# Altium integrated library Maxim Real-Time Clocks (RTCs).IntLib: 548 symbols (part 12 of 13)
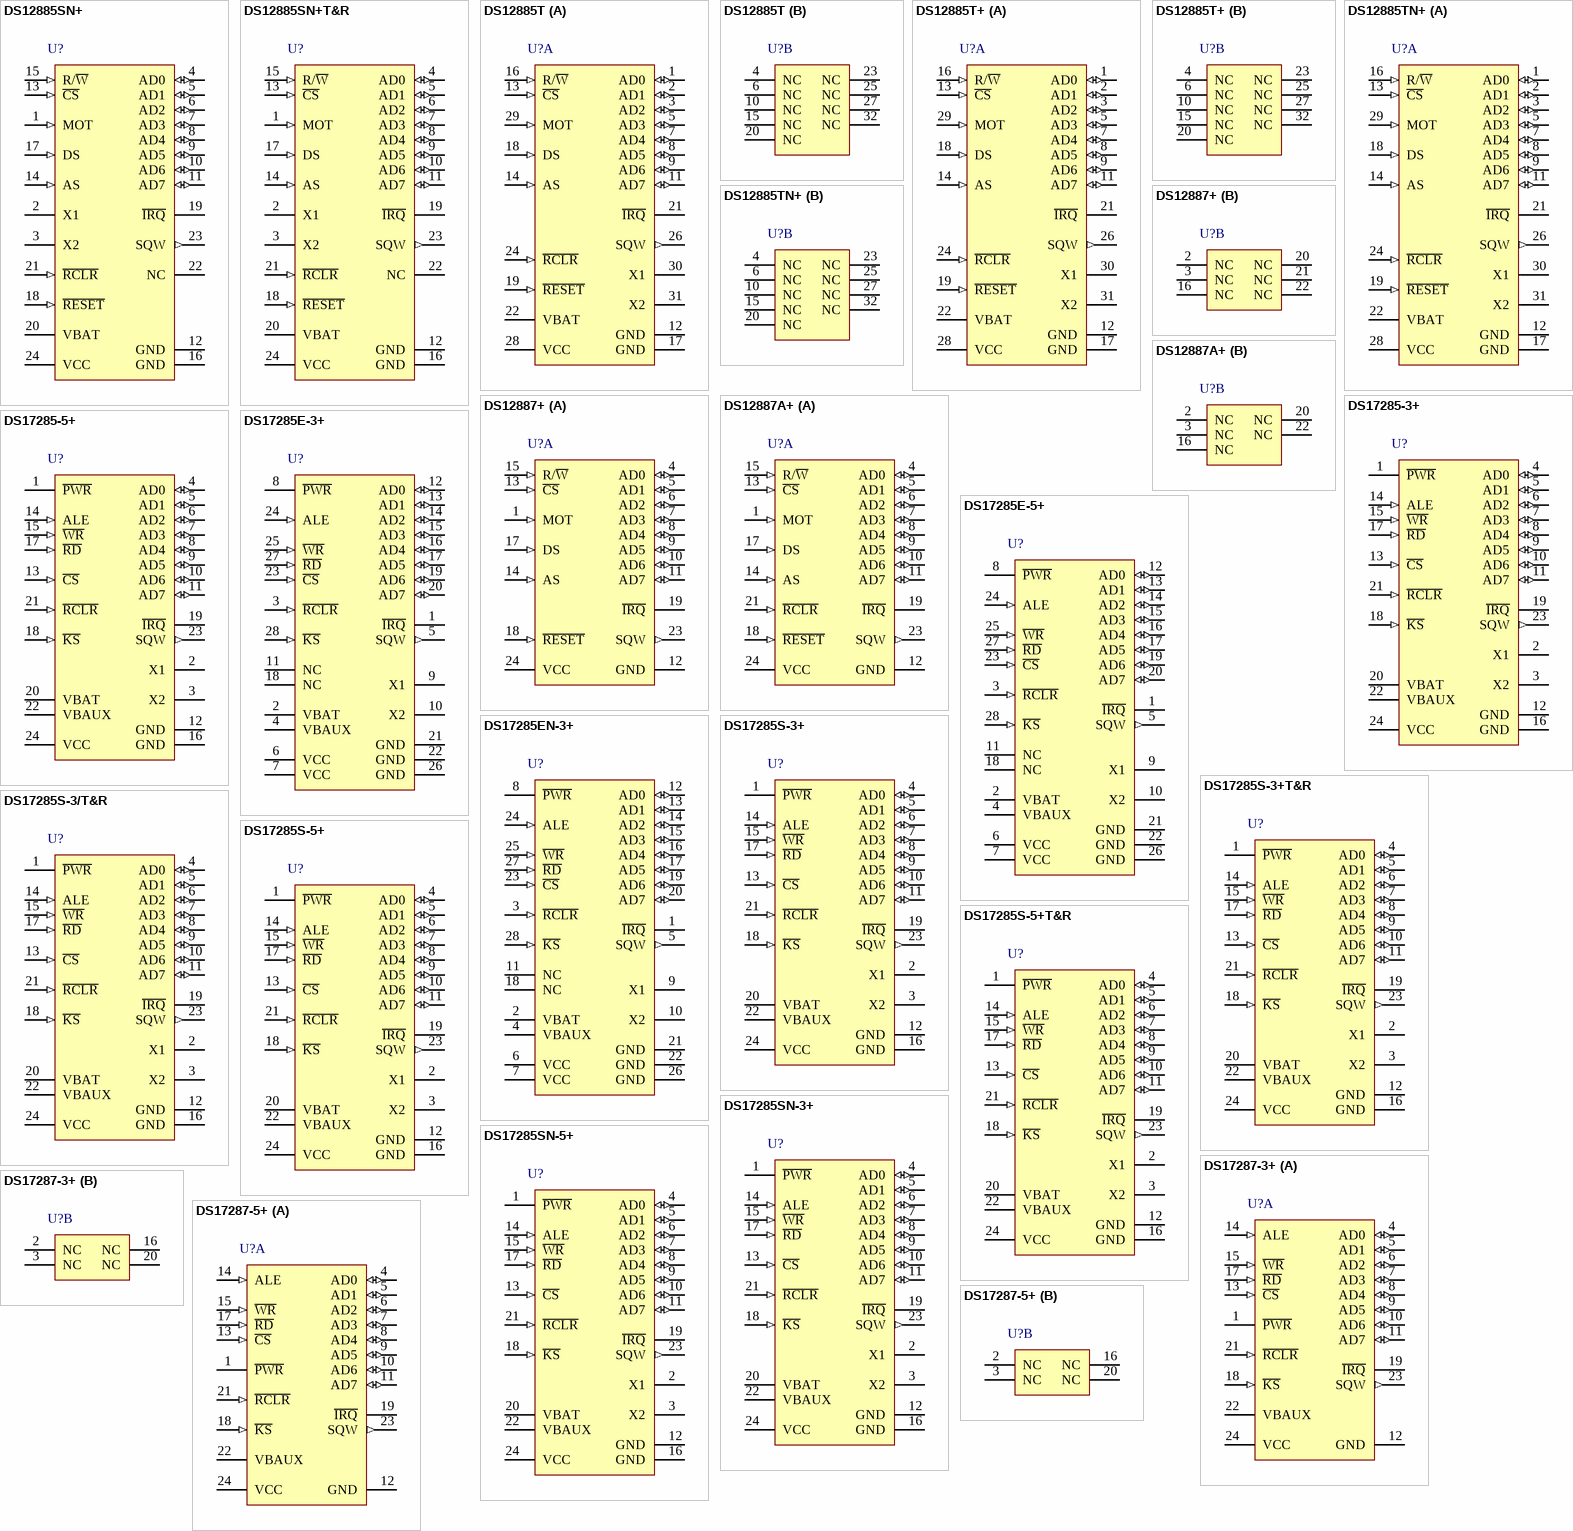
[diagram p32: symbols DS12885SN+ to DS17287-5+]

## DS12885T
designator U?
Real-Time Clock, 114 Byte Battery-Backed RAM, 32-Pin TQFP, 0 to 70 degC; DatasheetVersion: rev4, Apr-2010; PackageVersion: revB, Nov-2009; PackageReference: C32-3; PackageDescription: 32-Pin Thin Quad Flatpack, 10 x 10 x 1.0 mm Body, 0.8 mm Pitch, TQFP; ComponentLink1Description: Manufacturer URL; ComponentLink1URL: http://www.maxim-ic.com; ComponentLink2Description: Datasheet; ComponentLink2URL: http://datasheets.maxim-ic.com/en/ds/DS12885-DS12C887A.pdf; ComponentLink3Description: Package Specification; ComponentLink3URL: http://pdfserv.maxim-ic.com/package_dwgs/21-0292.PDF
footprint C32-3_N (Thin QFP, 32-Leads, Body 7x7mm, Pitch 0.8mm, IPC Medium Density)
footprint C32-3_L (Thin QFP, 32-Leads, Body 7x7mm, Pitch 0.8mm, IPC High Density)
footprint C32-3_M (Thin QFP, 32-Leads, Body 7x7mm, Pitch 0.8mm, IPC Low Density)
part A pins: 1 AD0 (io), 2 AD1 (io), 3 AD2 (io), 5 AD3 (io), 7 AD4 (io), 8 AD5 (io), 9 AD6 (io), 11 AD7 (io), 12 GND (power), 13 ~{CS} (in), 14 AS (in), 16 R/~{W} (in), 17 GND (power), 18 DS (in), 19 ~{RESET} (in), 21 ~{IRQ} (hiz), 22 VBAT (power), 24 ~{RCLR} (in), 26 SQW (out), 28 VCC (power), 29 MOT (in), 30 X1, 31 X2
part B pins: 4 NC, 6 NC, 10 NC, 15 NC, 20 NC, 23 NC, 25 NC, 27 NC, 32 NC

## DS12885T+
designator U?
Real-Time Clock, 114 Byte Battery-Backed RAM, 32-Pin TQFP, 0 to 70 degC, Pb-Free; DatasheetVersion: rev4, Apr-2010; PackageVersion: revB, Nov-2009; PackageReference: C32+3; PackageDescription: 32-Pin Thin Quad Flatpack, 10 x 10 x 1.0 mm Body, 0.8 mm Pitch, TQFP, Pb-Free; ComponentLink1Description: Manufacturer URL; ComponentLink1URL: http://www.maxim-ic.com; ComponentLink2Description: Datasheet; ComponentLink2URL: http://datasheets.maxim-ic.com/en/ds/DS12885-DS12C887A.pdf; ComponentLink3Description: Package Specification; ComponentLink3URL: http://pdfserv.maxim-ic.com/package_dwgs/21-0292.PDF
footprint C32+3_N (Thin QFP, 32-Leads, Body 7x7mm, Pitch 0.8mm, IPC Medium Density)
footprint C32+3_L (Thin QFP, 32-Leads, Body 7x7mm, Pitch 0.8mm, IPC High Density)
footprint C32+3_M (Thin QFP, 32-Leads, Body 7x7mm, Pitch 0.8mm, IPC Low Density)
part A pins: 1 AD0 (io), 2 AD1 (io), 3 AD2 (io), 5 AD3 (io), 7 AD4 (io), 8 AD5 (io), 9 AD6 (io), 11 AD7 (io), 12 GND (power), 13 ~{CS} (in), 14 AS (in), 16 R/~{W} (in), 17 GND (power), 18 DS (in), 19 ~{RESET} (in), 21 ~{IRQ} (hiz), 22 VBAT (power), 24 ~{RCLR} (in), 26 SQW (out), 28 VCC (power), 29 MOT (in), 30 X1, 31 X2
part B pins: 4 NC, 6 NC, 10 NC, 15 NC, 20 NC, 23 NC, 25 NC, 27 NC, 32 NC

## DS12885TN+
designator U?
Real-Time Clock, 114 Byte Battery-Backed RAM, 32-Pin TQFP, -40 to 85 degC, Pb-Free; DatasheetVersion: rev4, Apr-2010; PackageVersion: revB, Nov-2009; PackageReference: C32+3; PackageDescription: 32-Pin Thin Quad Flatpack, 10 x 10 x 1.0 mm Body, 0.8 mm Pitch, TQFP, Pb-Free; ComponentLink1Description: Manufacturer URL; ComponentLink1URL: http://www.maxim-ic.com; ComponentLink2Description: Datasheet; ComponentLink2URL: http://datasheets.maxim-ic.com/en/ds/DS12885-DS12C887A.pdf; ComponentLink3Description: Package Specification; ComponentLink3URL: http://pdfserv.maxim-ic.com/package_dwgs/21-0292.PDF
footprint C32+3_N (Thin QFP, 32-Leads, Body 7x7mm, Pitch 0.8mm, IPC Medium Density)
footprint C32+3_L (Thin QFP, 32-Leads, Body 7x7mm, Pitch 0.8mm, IPC High Density)
footprint C32+3_M (Thin QFP, 32-Leads, Body 7x7mm, Pitch 0.8mm, IPC Low Density)
part A pins: 1 AD0 (io), 2 AD1 (io), 3 AD2 (io), 5 AD3 (io), 7 AD4 (io), 8 AD5 (io), 9 AD6 (io), 11 AD7 (io), 12 GND (power), 13 ~{CS} (in), 14 AS (in), 16 R/~{W} (in), 17 GND (power), 18 DS (in), 19 ~{RESET} (in), 21 ~{IRQ} (hiz), 22 VBAT (power), 24 ~{RCLR} (in), 26 SQW (out), 28 VCC (power), 29 MOT (in), 30 X1, 31 X2
part B pins: 4 NC, 6 NC, 10 NC, 15 NC, 20 NC, 23 NC, 25 NC, 27 NC, 32 NC

## DS12887+
designator U?
Real-Time Clock, Integrated XTAL, 114 Byte Battery-Backed RAM, 24-Pin EDIP, 0 to 70 degC, Pb-Free; DatasheetVersion: rev4, Apr-2010; PackageVersion: revA, Feb-2009; PackageReference: MDP24+1; PackageDescription: 24-Pin Encapsulated Dual-In-Line Module, 2.54 mm Pitch, EDIP, 720-mil, Pb-Free; ComponentLink1Description: Manufacturer URL; ComponentLink1URL: http://www.maxim-ic.com; ComponentLink2Description: Datasheet; ComponentLink2URL: http://datasheets.maxim-ic.com/en/ds/DS12885-DS12C887A.pdf; ComponentLink3Description: Package Specification; ComponentLink3URL: http://pdfserv.maxim-ic.com/package_dwgs/21-0241.PDF
footprint MDP24+1 (DIP; 24 Rectangular Pins, Body 33.8x17.8mm, Row Space 15.24mm, Pitch 2.54mm)
part A pins: 1 MOT (in), 4 AD0 (io), 5 AD1 (io), 6 AD2 (io), 7 AD3 (io), 8 AD4 (io), 9 AD5 (io), 10 AD6 (io), 11 AD7 (io), 12 GND (power), 13 ~{CS} (in), 14 AS (in), 15 R/~{W} (in), 17 DS (in), 18 ~{RESET} (in), 19 ~{IRQ} (hiz), 23 SQW (out), 24 VCC (power)
part B pins: 2 NC, 3 NC, 16 NC, 20 NC, 21 NC, 22 NC

## DS12887A+
designator U?
Real-Time Clock, Integrated XTAL, 114 Byte Battery-Backed RAM, 24-Pin EDIP, 0 to 70 degC, Pb-Free; DatasheetVersion: rev4, Apr-2010; PackageVersion: revA, Feb-2009; PackageReference: MDP24+1; PackageDescription: 24-Pin Encapsulated Dual-In-Line Module, 2.54 mm Pitch, EDIP, 720-mil, Pb-Free; ComponentLink1Description: Manufacturer URL; ComponentLink1URL: http://www.maxim-ic.com; ComponentLink2Description: Datasheet; ComponentLink2URL: http://datasheets.maxim-ic.com/en/ds/DS12885-DS12C887A.pdf; ComponentLink3Description: Package Specification; ComponentLink3URL: http://pdfserv.maxim-ic.com/package_dwgs/21-0241.PDF
footprint MDP24+1 (DIP; 24 Rectangular Pins, Body 33.8x17.8mm, Row Space 15.24mm, Pitch 2.54mm)
part A pins: 1 MOT (in), 4 AD0 (io), 5 AD1 (io), 6 AD2 (io), 7 AD3 (io), 8 AD4 (io), 9 AD5 (io), 10 AD6 (io), 11 AD7 (io), 12 GND (power), 13 ~{CS} (in), 14 AS (in), 15 R/~{W} (in), 17 DS (in), 18 ~{RESET} (in), 19 ~{IRQ} (hiz), 21 ~{RCLR} (in), 23 SQW (out), 24 VCC (power)
part B pins: 2 NC, 3 NC, 16 NC, 20 NC, 22 NC

## DS17285-3+
designator U?
Real-Time Clock, 2KB Extended Battery-Backed NV RAM, 3.0V, 24-Pin PDIP, 0 to 70 degC, Pb-Free; DatasheetVersion: Rev 1, Apr-2010; PackageVersion: revD, 2011; PackageReference: P24+7; PackageDescription: 24-Pin Plastic Dual-In-Line, 0.6in Wide, PDIP(W), Pb-Free; Code_JEDEC: MS-011-AA; ComponentLink1Description: Manufacturer URL; ComponentLink1URL: http://www.maxim-ic.com; ComponentLink2Description: Datasheet; ComponentLink2URL: http://datasheets.maxim-ic.com/en/ds/DS17285-DS17887.pdf; ComponentLink3Description: Package Specification; ComponentLink3URL: http://pdfserv.maxim-ic.com/package_dwgs/21-0044.PDF
footprint P24+7 (DIP, 24-Leads, Row Spacing 15.24mm, Pitch 2.54mm, Body 31.8x14mm)
pins: 1 ~{PWR} (oc), 2 X1, 3 X2, 4 AD0 (io), 5 AD1 (io), 6 AD2 (io), 7 AD3 (io), 8 AD4 (io), 9 AD5 (io), 10 AD6 (io), 11 AD7 (io), 12 GND (power), 13 ~{CS} (in), 14 ALE (in), 15 ~{WR} (in), 16 GND (power), 17 ~{RD} (in), 18 ~{KS} (in), 19 ~{IRQ} (hiz), 20 VBAT (power), 21 ~{RCLR} (in), 22 VBAUX (power), 23 SQW (out), 24 VCC (power)

## DS17285-5+
designator U?
Real-Time Clock, 2KB Extended Battery-Backed NV RAM, 5.0V, 24-Pin PDIP, 0 to 70 degC, Pb-Free; DatasheetVersion: Rev 1, Apr-2010; PackageVersion: revD, 2011; PackageReference: P24+7; PackageDescription: 24-Pin Plastic Dual-In-Line, 0.6in Wide, PDIP(W), Pb-Free; Code_JEDEC: MS-011-AA; ComponentLink1Description: Manufacturer URL; ComponentLink1URL: http://www.maxim-ic.com; ComponentLink2Description: Datasheet; ComponentLink2URL: http://datasheets.maxim-ic.com/en/ds/DS17285-DS17887.pdf; ComponentLink3Description: Package Specification; ComponentLink3URL: http://pdfserv.maxim-ic.com/package_dwgs/21-0044.PDF
footprint P24+7 (DIP, 24-Leads, Row Spacing 15.24mm, Pitch 2.54mm, Body 31.8x14mm)
pins: 1 ~{PWR} (oc), 2 X1, 3 X2, 4 AD0 (io), 5 AD1 (io), 6 AD2 (io), 7 AD3 (io), 8 AD4 (io), 9 AD5 (io), 10 AD6 (io), 11 AD7 (io), 12 GND (power), 13 ~{CS} (in), 14 ALE (in), 15 ~{WR} (in), 16 GND (power), 17 ~{RD} (in), 18 ~{KS} (in), 19 ~{IRQ} (hiz), 20 VBAT (power), 21 ~{RCLR} (in), 22 VBAUX (power), 23 SQW (out), 24 VCC (power)

## DS17285E-3+
designator U?
Real-Time Clock, 2KB Extended Battery-Backed NV RAM, 3.0V, 28-Pin TSOP, 0 to 70 degC, Pb-Free; DatasheetVersion: Rev 1, Apr-2010; PackageVersion: revB, Mar-2010; PackageReference: Z28+4; PackageDescription: 28-Pin Thin Small-Outline Package, 8.0 x 13.4 mm Body, 0.55 mm Pitch, TSOP(1), Pb-Free; Code_JEDEC: MO-183; ComponentLink1Description: Manufacturer URL; ComponentLink1URL: http://www.maxim-ic.com; ComponentLink2Description: Datasheet; ComponentLink2URL: http://datasheets.maxim-ic.com/en/ds/DS17285-DS17887.pdf; ComponentLink3Description: Package Specification; ComponentLink3URL: http://pdfserv.maxim-ic.com/package_dwgs/21-0273.PDF
footprint Z28+4_N (TSSOP, 28-Leads, Body 8x11.8mm, Pitch 0.55mm, IPC Medium Density)
footprint Z28+4_L (TSSOP, 28-Leads, Body 8x11.8mm, Pitch 0.55mm, IPC High Density)
footprint Z28+4_M (TSSOP, 28-Leads, Body 8x11.8mm, Pitch 0.55mm, IPC Low Density)
pins: 1 ~{IRQ} (oc), 2 VBAT (power), 3 ~{RCLR} (in), 4 VBAUX (power), 5 SQW (out), 6 VCC (power), 7 VCC (power), 8 ~{PWR} (oc), 9 X1, 10 X2, 11 NC, 12 AD0 (io), 13 AD1 (io), 14 AD2 (io), 15 AD3 (io), 16 AD4 (io), 17 AD5 (io), 18 NC, 19 AD6 (io), 20 AD7 (io), 21 GND (power), 22 GND (power), 23 ~{CS} (in), 24 ALE (in), 25 ~{WR} (in), 26 GND (power), 27 ~{RD} (in), 28 ~{KS} (in)

## DS17285E-5+
designator U?
Real-Time Clock, 2KB Extended Battery-Backed NV RAM, 5.0V, 28-Pin TSOP, 0 to 70 degC, Pb-Free; DatasheetVersion: Rev 1, Apr-2010; PackageVersion: revB, Mar-2010; PackageReference: Z28+4; PackageDescription: 28-Pin Thin Small-Outline Package, 8.0 x 13.4 mm Body, 0.55 mm Pitch, TSOP(1), Pb-Free; Code_JEDEC: MO-183; ComponentLink1Description: Manufacturer URL; ComponentLink1URL: http://www.maxim-ic.com; ComponentLink2Description: Datasheet; ComponentLink2URL: http://datasheets.maxim-ic.com/en/ds/DS17285-DS17887.pdf; ComponentLink3Description: Package Specification; ComponentLink3URL: http://pdfserv.maxim-ic.com/package_dwgs/21-0273.PDF
footprint Z28+4_N (TSSOP, 28-Leads, Body 8x11.8mm, Pitch 0.55mm, IPC Medium Density)
footprint Z28+4_L (TSSOP, 28-Leads, Body 8x11.8mm, Pitch 0.55mm, IPC High Density)
footprint Z28+4_M (TSSOP, 28-Leads, Body 8x11.8mm, Pitch 0.55mm, IPC Low Density)
pins: 1 ~{IRQ} (oc), 2 VBAT (power), 3 ~{RCLR} (in), 4 VBAUX (power), 5 SQW (out), 6 VCC (power), 7 VCC (power), 8 ~{PWR} (oc), 9 X1, 10 X2, 11 NC, 12 AD0 (io), 13 AD1 (io), 14 AD2 (io), 15 AD3 (io), 16 AD4 (io), 17 AD5 (io), 18 NC, 19 AD6 (io), 20 AD7 (io), 21 GND (power), 22 GND (power), 23 ~{CS} (in), 24 ALE (in), 25 ~{WR} (in), 26 GND (power), 27 ~{RD} (in), 28 ~{KS} (in)

## DS17285EN-3+
designator U?
Real-Time Clock, 2KB Extended Battery-Backed NV RAM, 3.0V, 28-Pin TSOP, -40 to 85 degC, Pb-Free; DatasheetVersion: Rev 1, Apr-2010; PackageVersion: revB, Mar-2010; PackageReference: Z28+4; PackageDescription: 28-Pin Thin Small-Outline Package, 8.0 x 13.4 mm Body, 0.55 mm Pitch, TSOP(1), Pb-Free; Code_JEDEC: MO-183; ComponentLink1Description: Manufacturer URL; ComponentLink1URL: http://www.maxim-ic.com; ComponentLink2Description: Datasheet; ComponentLink2URL: http://datasheets.maxim-ic.com/en/ds/DS17285-DS17887.pdf; ComponentLink3Description: Package Specification; ComponentLink3URL: http://pdfserv.maxim-ic.com/package_dwgs/21-0273.PDF
footprint Z28+4_N (TSSOP, 28-Leads, Body 8x11.8mm, Pitch 0.55mm, IPC Medium Density)
footprint Z28+4_L (TSSOP, 28-Leads, Body 8x11.8mm, Pitch 0.55mm, IPC High Density)
footprint Z28+4_M (TSSOP, 28-Leads, Body 8x11.8mm, Pitch 0.55mm, IPC Low Density)
pins: 1 ~{IRQ} (oc), 2 VBAT (power), 3 ~{RCLR} (in), 4 VBAUX (power), 5 SQW (out), 6 VCC (power), 7 VCC (power), 8 ~{PWR} (oc), 9 X1, 10 X2, 11 NC, 12 AD0 (io), 13 AD1 (io), 14 AD2 (io), 15 AD3 (io), 16 AD4 (io), 17 AD5 (io), 18 NC, 19 AD6 (io), 20 AD7 (io), 21 GND (power), 22 GND (power), 23 ~{CS} (in), 24 ALE (in), 25 ~{WR} (in), 26 GND (power), 27 ~{RD} (in), 28 ~{KS} (in)

## DS17285S-3+
designator U?
Real-Time Clock, 2KB Extended Battery-Backed NV RAM, 3.0V, 24-Pin SO, 0 to 70 degC, Pb-Free; DatasheetVersion: Rev 1, Apr-2010; PackageVersion: revD, 2010; PackageReference: W24+7; PackageDescription: 24-Pin Small-Outline IC, Wide (0.3in), 1.27 mm Pitch, SOIC (W), Pb-Free; Code_JEDEC: MS-013-AD; ComponentLink1Description: Manufacturer URL; ComponentLink1URL: http://www.maxim-ic.com; ComponentLink2Description: Datasheet; ComponentLink2URL: http://datasheets.maxim-ic.com/en/ds/DS17285-DS17887.pdf; ComponentLink3Description: Package Specification; ComponentLink3URL: http://pdfserv.maxim-ic.com/package_dwgs/21-0042.PDF
footprint W24+7_N (SOIC, 24-Leads, Body 15.4x7.5mm, Pitch 1.27mm, IPC Medium Density)
footprint W24+7_L (SOIC, 24-Leads, Body 15.4x7.5mm, Pitch 1.27mm, IPC High Density)
footprint W24+7_M (SOIC, 24-Leads, Body 15.4x7.5mm, Pitch 1.27mm, IPC Low Density)
pins: 1 ~{PWR} (oc), 2 X1, 3 X2, 4 AD0 (io), 5 AD1 (io), 6 AD2 (io), 7 AD3 (io), 8 AD4 (io), 9 AD5 (io), 10 AD6 (io), 11 AD7 (io), 12 GND (power), 13 ~{CS} (in), 14 ALE (in), 15 ~{WR} (in), 16 GND (power), 17 ~{RD} (in), 18 ~{KS} (in), 19 ~{IRQ} (hiz), 20 VBAT (power), 21 ~{RCLR} (in), 22 VBAUX (power), 23 SQW (out), 24 VCC (power)

## DS17285S-3+T&R
designator U?
Real-Time Clock, 2KB Extended Battery-Backed NV RAM, 3.0V, 24-Pin SO, 0 to 70 degC, Pb-Free, Reel; DatasheetVersion: Rev 1, Apr-2010; PackageVersion: revD, 2010; PackageReference: W24+7; PackageDescription: 24-Pin Small-Outline IC, Wide (0.3in), 1.27 mm Pitch, SOIC (W), Pb-Free; Code_JEDEC: MS-013-AD; ComponentLink1Description: Manufacturer URL; ComponentLink1URL: http://www.maxim-ic.com; ComponentLink2Description: Datasheet; ComponentLink2URL: http://datasheets.maxim-ic.com/en/ds/DS17285-DS17887.pdf; ComponentLink3Description: Package Specification; ComponentLink3URL: http://pdfserv.maxim-ic.com/package_dwgs/21-0042.PDF
footprint W24+7_N (SOIC, 24-Leads, Body 15.4x7.5mm, Pitch 1.27mm, IPC Medium Density)
footprint W24+7_L (SOIC, 24-Leads, Body 15.4x7.5mm, Pitch 1.27mm, IPC High Density)
footprint W24+7_M (SOIC, 24-Leads, Body 15.4x7.5mm, Pitch 1.27mm, IPC Low Density)
pins: 1 ~{PWR} (oc), 2 X1, 3 X2, 4 AD0 (io), 5 AD1 (io), 6 AD2 (io), 7 AD3 (io), 8 AD4 (io), 9 AD5 (io), 10 AD6 (io), 11 AD7 (io), 12 GND (power), 13 ~{CS} (in), 14 ALE (in), 15 ~{WR} (in), 16 GND (power), 17 ~{RD} (in), 18 ~{KS} (in), 19 ~{IRQ} (hiz), 20 VBAT (power), 21 ~{RCLR} (in), 22 VBAUX (power), 23 SQW (out), 24 VCC (power)

## DS17285S-3/T&R
designator U?
Real-Time Clock, 2KB Extended Battery-Backed NV RAM, 3.0V, 24-Pin SO, 0 to 70 degC, Reel; DatasheetVersion: Rev 1, Apr-2010; PackageVersion: revD, 2010; PackageReference: W24-7; PackageDescription: 24-Pin Small-Outline IC, Wide (0.3in), 1.27 mm Pitch, SOIC (W); Code_JEDEC: MS-013-AD; ComponentLink1Description: Manufacturer URL; ComponentLink1URL: http://www.maxim-ic.com; ComponentLink2Description: Datasheet; ComponentLink2URL: http://datasheets.maxim-ic.com/en/ds/DS17285-DS17887.pdf; ComponentLink3Description: Package Specification; ComponentLink3URL: http://pdfserv.maxim-ic.com/package_dwgs/21-0042.PDF
footprint W24-7_N (SOIC, 24-Leads, Body 15.4x7.5mm, Pitch 1.27mm, IPC Medium Density)
footprint W24-7_L (SOIC, 24-Leads, Body 15.4x7.5mm, Pitch 1.27mm, IPC High Density)
footprint W24-7_M (SOIC, 24-Leads, Body 15.4x7.5mm, Pitch 1.27mm, IPC Low Density)
pins: 1 ~{PWR} (oc), 2 X1, 3 X2, 4 AD0 (io), 5 AD1 (io), 6 AD2 (io), 7 AD3 (io), 8 AD4 (io), 9 AD5 (io), 10 AD6 (io), 11 AD7 (io), 12 GND (power), 13 ~{CS} (in), 14 ALE (in), 15 ~{WR} (in), 16 GND (power), 17 ~{RD} (in), 18 ~{KS} (in), 19 ~{IRQ} (hiz), 20 VBAT (power), 21 ~{RCLR} (in), 22 VBAUX (power), 23 SQW (out), 24 VCC (power)

## DS17285S-5+
designator U?
Real-Time Clock, 2KB Extended Battery-Backed NV RAM, 5.0V, 24-Pin SO, 0 to 70 degC, Pb-Free; DatasheetVersion: Rev 1, Apr-2010; PackageVersion: revD, 2010; PackageReference: W24+7; PackageDescription: 24-Pin Small-Outline IC, Wide (0.3in), 1.27 mm Pitch, SOIC (W), Pb-Free; Code_JEDEC: MS-013-AD; ComponentLink1Description: Manufacturer URL; ComponentLink1URL: http://www.maxim-ic.com; ComponentLink2Description: Datasheet; ComponentLink2URL: http://datasheets.maxim-ic.com/en/ds/DS17285-DS17887.pdf; ComponentLink3Description: Package Specification; ComponentLink3URL: http://pdfserv.maxim-ic.com/package_dwgs/21-0042.PDF
footprint W24+7_N (SOIC, 24-Leads, Body 15.4x7.5mm, Pitch 1.27mm, IPC Medium Density)
footprint W24+7_L (SOIC, 24-Leads, Body 15.4x7.5mm, Pitch 1.27mm, IPC High Density)
footprint W24+7_M (SOIC, 24-Leads, Body 15.4x7.5mm, Pitch 1.27mm, IPC Low Density)
pins: 1 ~{PWR} (oc), 2 X1, 3 X2, 4 AD0 (io), 5 AD1 (io), 6 AD2 (io), 7 AD3 (io), 8 AD4 (io), 9 AD5 (io), 10 AD6 (io), 11 AD7 (io), 12 GND (power), 13 ~{CS} (in), 14 ALE (in), 15 ~{WR} (in), 16 GND (power), 17 ~{RD} (in), 18 ~{KS} (in), 19 ~{IRQ} (hiz), 20 VBAT (power), 21 ~{RCLR} (in), 22 VBAUX (power), 23 SQW (out), 24 VCC (power)

## DS17285S-5+T&R
designator U?
Real-Time Clock, 2KB Extended Battery-Backed NV RAM, 5.0V, 24-Pin SO, 0 to 70 degC, Pb-Free, Reel; DatasheetVersion: Rev 1, Apr-2010; PackageVersion: revD, 2010; PackageReference: W24+7; PackageDescription: 24-Pin Small-Outline IC, Wide (0.3in), 1.27 mm Pitch, SOIC (W), Pb-Free; Code_JEDEC: MS-013-AD; ComponentLink1Description: Manufacturer URL; ComponentLink1URL: http://www.maxim-ic.com; ComponentLink2Description: Datasheet; ComponentLink2URL: http://datasheets.maxim-ic.com/en/ds/DS17285-DS17887.pdf; ComponentLink3Description: Package Specification; ComponentLink3URL: http://pdfserv.maxim-ic.com/package_dwgs/21-0042.PDF
footprint W24+7_N (SOIC, 24-Leads, Body 15.4x7.5mm, Pitch 1.27mm, IPC Medium Density)
footprint W24+7_L (SOIC, 24-Leads, Body 15.4x7.5mm, Pitch 1.27mm, IPC High Density)
footprint W24+7_M (SOIC, 24-Leads, Body 15.4x7.5mm, Pitch 1.27mm, IPC Low Density)
pins: 1 ~{PWR} (oc), 2 X1, 3 X2, 4 AD0 (io), 5 AD1 (io), 6 AD2 (io), 7 AD3 (io), 8 AD4 (io), 9 AD5 (io), 10 AD6 (io), 11 AD7 (io), 12 GND (power), 13 ~{CS} (in), 14 ALE (in), 15 ~{WR} (in), 16 GND (power), 17 ~{RD} (in), 18 ~{KS} (in), 19 ~{IRQ} (hiz), 20 VBAT (power), 21 ~{RCLR} (in), 22 VBAUX (power), 23 SQW (out), 24 VCC (power)

## DS17285SN-3+
designator U?
Real-Time Clock, 2KB Extended Battery-Backed NV RAM, 3.0V, 24-Pin SO, -40 to 85 degC, Pb-Free; DatasheetVersion: Rev 1, Apr-2010; PackageVersion: revD, 2010; PackageReference: W24+7; PackageDescription: 24-Pin Small-Outline IC, Wide (0.3in), 1.27 mm Pitch, SOIC (W), Pb-Free; Code_JEDEC: MS-013-AD; ComponentLink1Description: Manufacturer URL; ComponentLink1URL: http://www.maxim-ic.com; ComponentLink2Description: Datasheet; ComponentLink2URL: http://datasheets.maxim-ic.com/en/ds/DS17285-DS17887.pdf; ComponentLink3Description: Package Specification; ComponentLink3URL: http://pdfserv.maxim-ic.com/package_dwgs/21-0042.PDF
footprint W24+7_N (SOIC, 24-Leads, Body 15.4x7.5mm, Pitch 1.27mm, IPC Medium Density)
footprint W24+7_L (SOIC, 24-Leads, Body 15.4x7.5mm, Pitch 1.27mm, IPC High Density)
footprint W24+7_M (SOIC, 24-Leads, Body 15.4x7.5mm, Pitch 1.27mm, IPC Low Density)
pins: 1 ~{PWR} (oc), 2 X1, 3 X2, 4 AD0 (io), 5 AD1 (io), 6 AD2 (io), 7 AD3 (io), 8 AD4 (io), 9 AD5 (io), 10 AD6 (io), 11 AD7 (io), 12 GND (power), 13 ~{CS} (in), 14 ALE (in), 15 ~{WR} (in), 16 GND (power), 17 ~{RD} (in), 18 ~{KS} (in), 19 ~{IRQ} (hiz), 20 VBAT (power), 21 ~{RCLR} (in), 22 VBAUX (power), 23 SQW (out), 24 VCC (power)

## DS17285SN-5+
designator U?
Real-Time Clock, 2KB Extended Battery-Backed NV RAM, 5.0V, 24-Pin SO, -40 to 85 degC, Pb-Free; DatasheetVersion: Rev 1, Apr-2010; PackageVersion: revD, 2010; PackageReference: W24+7; PackageDescription: 24-Pin Small-Outline IC, Wide (0.3in), 1.27 mm Pitch, SOIC (W), Pb-Free; Code_JEDEC: MS-013-AD; ComponentLink1Description: Manufacturer URL; ComponentLink1URL: http://www.maxim-ic.com; ComponentLink2Description: Datasheet; ComponentLink2URL: http://datasheets.maxim-ic.com/en/ds/DS17285-DS17887.pdf; ComponentLink3Description: Package Specification; ComponentLink3URL: http://pdfserv.maxim-ic.com/package_dwgs/21-0042.PDF
footprint W24+7_N (SOIC, 24-Leads, Body 15.4x7.5mm, Pitch 1.27mm, IPC Medium Density)
footprint W24+7_L (SOIC, 24-Leads, Body 15.4x7.5mm, Pitch 1.27mm, IPC High Density)
footprint W24+7_M (SOIC, 24-Leads, Body 15.4x7.5mm, Pitch 1.27mm, IPC Low Density)
pins: 1 ~{PWR} (oc), 2 X1, 3 X2, 4 AD0 (io), 5 AD1 (io), 6 AD2 (io), 7 AD3 (io), 8 AD4 (io), 9 AD5 (io), 10 AD6 (io), 11 AD7 (io), 12 GND (power), 13 ~{CS} (in), 14 ALE (in), 15 ~{WR} (in), 16 GND (power), 17 ~{RD} (in), 18 ~{KS} (in), 19 ~{IRQ} (hiz), 20 VBAT (power), 21 ~{RCLR} (in), 22 VBAUX (power), 23 SQW (out), 24 VCC (power)

## DS17287-3+
designator U?
Real-Time Clock, 2KB Extended Battery-Backed NV RAM, 3.0V, 24-Pin EDIP, 0 to 70 degC, Pb-Free; DatasheetVersion: Rev 1, Apr-2010; PackageVersion: revA, Feb-2009; PackageReference: MDP24+2; PackageDescription: 24-Pin Encapsulated Dual-In-Line Module, 2.54 mm Pitch, EDIP, 740-mil, Pb-Free; ComponentLink1Description: Manufacturer URL; ComponentLink1URL: http://www.maxim-ic.com; ComponentLink2Description: Datasheet; ComponentLink2URL: http://datasheets.maxim-ic.com/en/ds/DS17285-DS17887.pdf; ComponentLink3Description: Package Specification; ComponentLink3URL: http://pdfserv.maxim-ic.com/package_dwgs/21-0241.PDF
footprint MDP24+2 (DIP; 24 Rectangular Pins, Body 33.8x18.5mm, Row Space 15.24mm, Pitch 2.54mm)
part A pins: 1 ~{PWR} (oc), 4 AD0 (io), 5 AD1 (io), 6 AD2 (io), 7 AD3 (io), 8 AD4 (io), 9 AD5 (io), 10 AD6 (io), 11 AD7 (io), 12 GND (power), 13 ~{CS} (in), 14 ALE (in), 15 ~{WR} (in), 17 ~{RD} (in), 18 ~{KS} (in), 19 ~{IRQ} (oc), 21 ~{RCLR} (in), 22 VBAUX (power), 23 SQW (out), 24 VCC (power)
part B pins: 2 NC, 3 NC, 16 NC, 20 NC

## DS17287-5+
designator U?
Real-Time Clock, 2KB Extended Battery-Backed NV RAM, 5.0V, 24-Pin EDIP, 0 to 70 degC, Pb-Free; DatasheetVersion: Rev 1, Apr-2010; PackageVersion: revA, Feb-2009; PackageReference: MDP24+2; PackageDescription: 24-Pin Encapsulated Dual-In-Line Module, 2.54 mm Pitch, EDIP, 740-mil, Pb-Free; ComponentLink1Description: Manufacturer URL; ComponentLink1URL: http://www.maxim-ic.com; ComponentLink2Description: Datasheet; ComponentLink2URL: http://datasheets.maxim-ic.com/en/ds/DS17285-DS17887.pdf; ComponentLink3Description: Package Specification; ComponentLink3URL: http://pdfserv.maxim-ic.com/package_dwgs/21-0241.PDF
footprint MDP24+2 (DIP; 24 Rectangular Pins, Body 33.8x18.5mm, Row Space 15.24mm, Pitch 2.54mm)
part A pins: 1 ~{PWR} (oc), 4 AD0 (io), 5 AD1 (io), 6 AD2 (io), 7 AD3 (io), 8 AD4 (io), 9 AD5 (io), 10 AD6 (io), 11 AD7 (io), 12 GND (power), 13 ~{CS} (in), 14 ALE (in), 15 ~{WR} (in), 17 ~{RD} (in), 18 ~{KS} (in), 19 ~{IRQ} (oc), 21 ~{RCLR} (in), 22 VBAUX (power), 23 SQW (out), 24 VCC (power)
part B pins: 2 NC, 3 NC, 16 NC, 20 NC

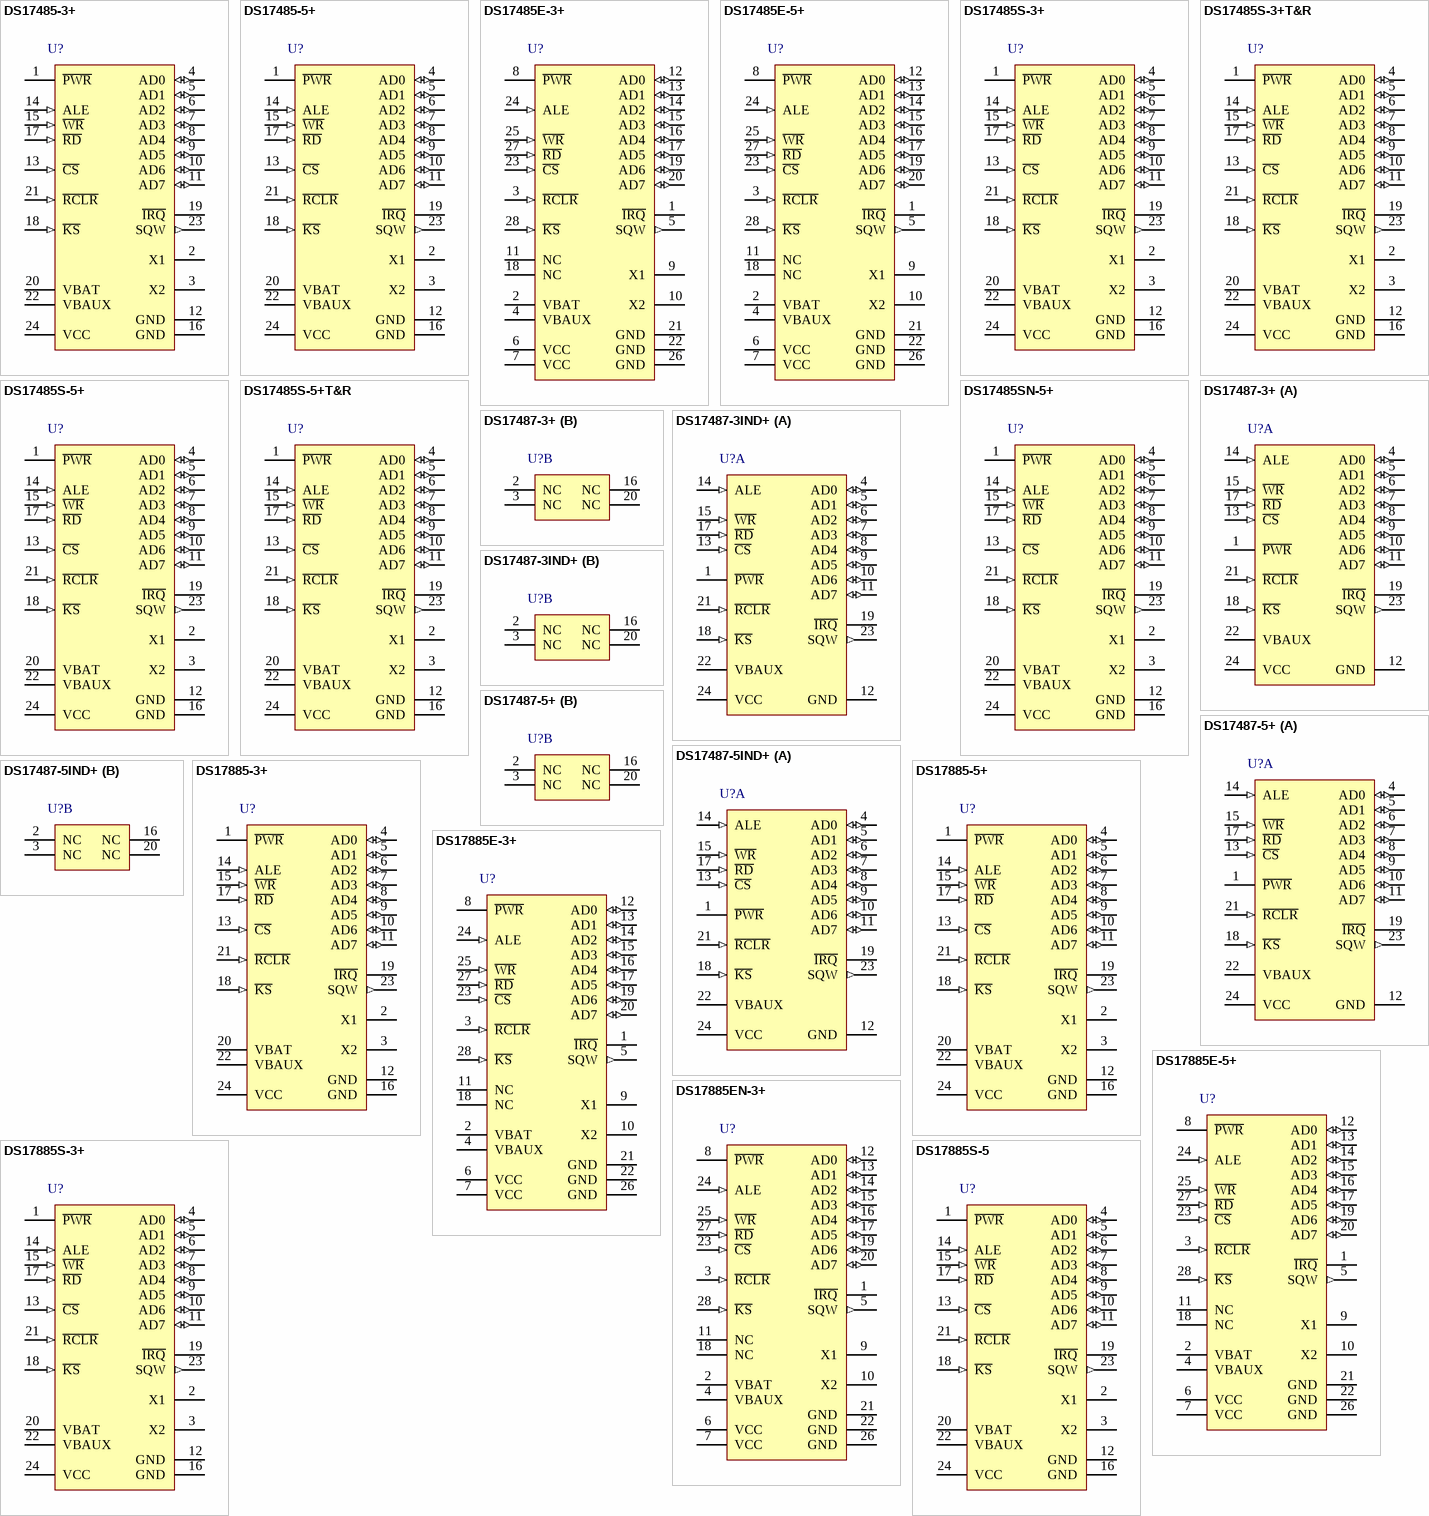
[diagram p20: symbols DS17485-3+ to DS17885S-5]

## DS17485-3+
designator U?
Real-Time Clock, 4KB Extended Battery-Backed NV RAM, 3.0V, 24-Pin PDIP, 0 to 70 degC, Pb-Free; DatasheetVersion: Rev 1, Apr-2010; PackageVersion: revD, 2011; PackageReference: P24+7; PackageDescription: 24-Pin Plastic Dual-In-Line, 0.6in Wide, PDIP(W), Pb-Free; Code_JEDEC: MS-011-AA; ComponentLink1Description: Manufacturer URL; ComponentLink1URL: http://www.maxim-ic.com; ComponentLink2Description: Datasheet; ComponentLink2URL: http://datasheets.maxim-ic.com/en/ds/DS17285-DS17887.pdf; ComponentLink3Description: Package Specification; ComponentLink3URL: http://pdfserv.maxim-ic.com/package_dwgs/21-0044.PDF
footprint P24+7 (DIP, 24-Leads, Row Spacing 15.24mm, Pitch 2.54mm, Body 31.8x14mm)
pins: 1 ~{PWR} (oc), 2 X1, 3 X2, 4 AD0 (io), 5 AD1 (io), 6 AD2 (io), 7 AD3 (io), 8 AD4 (io), 9 AD5 (io), 10 AD6 (io), 11 AD7 (io), 12 GND (power), 13 ~{CS} (in), 14 ALE (in), 15 ~{WR} (in), 16 GND (power), 17 ~{RD} (in), 18 ~{KS} (in), 19 ~{IRQ} (hiz), 20 VBAT (power), 21 ~{RCLR} (in), 22 VBAUX (power), 23 SQW (out), 24 VCC (power)

## DS17485-5+
designator U?
Real-Time Clock, 4KB Extended Battery-Backed NV RAM, 5.0V, 24-Pin PDIP, 0 to 70 degC, Pb-Free; DatasheetVersion: Rev 1, Apr-2010; PackageVersion: revD, 2011; PackageReference: P24+7; PackageDescription: 24-Pin Plastic Dual-In-Line, 0.6in Wide, PDIP(W), Pb-Free; Code_JEDEC: MS-011-AA; ComponentLink1Description: Manufacturer URL; ComponentLink1URL: http://www.maxim-ic.com; ComponentLink2Description: Datasheet; ComponentLink2URL: http://datasheets.maxim-ic.com/en/ds/DS17285-DS17887.pdf; ComponentLink3Description: Package Specification; ComponentLink3URL: http://pdfserv.maxim-ic.com/package_dwgs/21-0044.PDF
footprint P24+7 (DIP, 24-Leads, Row Spacing 15.24mm, Pitch 2.54mm, Body 31.8x14mm)
pins: 1 ~{PWR} (oc), 2 X1, 3 X2, 4 AD0 (io), 5 AD1 (io), 6 AD2 (io), 7 AD3 (io), 8 AD4 (io), 9 AD5 (io), 10 AD6 (io), 11 AD7 (io), 12 GND (power), 13 ~{CS} (in), 14 ALE (in), 15 ~{WR} (in), 16 GND (power), 17 ~{RD} (in), 18 ~{KS} (in), 19 ~{IRQ} (hiz), 20 VBAT (power), 21 ~{RCLR} (in), 22 VBAUX (power), 23 SQW (out), 24 VCC (power)

## DS17485E-3+
designator U?
Real-Time Clock, 4KB Extended Battery-Backed NV RAM, 3.0V, 28-Pin TSOP, 0 to 70 degC, Pb-Free; DatasheetVersion: Rev 1, Apr-2010; PackageVersion: revB, Mar-2010; PackageReference: Z28+4; PackageDescription: 28-Pin Thin Small-Outline Package, 8.0 x 13.4 mm Body, 0.55 mm Pitch, TSOP(1), Pb-Free; Code_JEDEC: MO-183; ComponentLink1Description: Manufacturer URL; ComponentLink1URL: http://www.maxim-ic.com; ComponentLink2Description: Datasheet; ComponentLink2URL: http://datasheets.maxim-ic.com/en/ds/DS17285-DS17887.pdf; ComponentLink3Description: Package Specification; ComponentLink3URL: http://pdfserv.maxim-ic.com/package_dwgs/21-0273.PDF
footprint Z28+4_N (TSSOP, 28-Leads, Body 8x11.8mm, Pitch 0.55mm, IPC Medium Density)
footprint Z28+4_L (TSSOP, 28-Leads, Body 8x11.8mm, Pitch 0.55mm, IPC High Density)
footprint Z28+4_M (TSSOP, 28-Leads, Body 8x11.8mm, Pitch 0.55mm, IPC Low Density)
pins: 1 ~{IRQ} (oc), 2 VBAT (power), 3 ~{RCLR} (in), 4 VBAUX (power), 5 SQW (out), 6 VCC (power), 7 VCC (power), 8 ~{PWR} (oc), 9 X1, 10 X2, 11 NC, 12 AD0 (io), 13 AD1 (io), 14 AD2 (io), 15 AD3 (io), 16 AD4 (io), 17 AD5 (io), 18 NC, 19 AD6 (io), 20 AD7 (io), 21 GND (power), 22 GND (power), 23 ~{CS} (in), 24 ALE (in), 25 ~{WR} (in), 26 GND (power), 27 ~{RD} (in), 28 ~{KS} (in)

## DS17485E-5+
designator U?
Real-Time Clock, 4KB Extended Battery-Backed NV RAM, 5.0V, 28-Pin TSOP, 0 to 70 degC, Pb-Free; DatasheetVersion: Rev 1, Apr-2010; PackageVersion: revB, Mar-2010; PackageReference: Z28+4; PackageDescription: 28-Pin Thin Small-Outline Package, 8.0 x 13.4 mm Body, 0.55 mm Pitch, TSOP(1), Pb-Free; Code_JEDEC: MO-183; ComponentLink1Description: Manufacturer URL; ComponentLink1URL: http://www.maxim-ic.com; ComponentLink2Description: Datasheet; ComponentLink2URL: http://datasheets.maxim-ic.com/en/ds/DS17285-DS17887.pdf; ComponentLink3Description: Package Specification; ComponentLink3URL: http://pdfserv.maxim-ic.com/package_dwgs/21-0273.PDF
footprint Z28+4_N (TSSOP, 28-Leads, Body 8x11.8mm, Pitch 0.55mm, IPC Medium Density)
footprint Z28+4_L (TSSOP, 28-Leads, Body 8x11.8mm, Pitch 0.55mm, IPC High Density)
footprint Z28+4_M (TSSOP, 28-Leads, Body 8x11.8mm, Pitch 0.55mm, IPC Low Density)
pins: 1 ~{IRQ} (oc), 2 VBAT (power), 3 ~{RCLR} (in), 4 VBAUX (power), 5 SQW (out), 6 VCC (power), 7 VCC (power), 8 ~{PWR} (oc), 9 X1, 10 X2, 11 NC, 12 AD0 (io), 13 AD1 (io), 14 AD2 (io), 15 AD3 (io), 16 AD4 (io), 17 AD5 (io), 18 NC, 19 AD6 (io), 20 AD7 (io), 21 GND (power), 22 GND (power), 23 ~{CS} (in), 24 ALE (in), 25 ~{WR} (in), 26 GND (power), 27 ~{RD} (in), 28 ~{KS} (in)

## DS17485S-3+
designator U?
Real-Time Clock, 4KB Extended Battery-Backed NV RAM, 3.0V, 24-Pin SO, 0 to 70 degC, Pb-Free; DatasheetVersion: Rev 1, Apr-2010; PackageVersion: revD, 2010; PackageReference: W24+3; PackageDescription: 24-Pin Small-Outline IC, Wide (0.3in), 1.27 mm Pitch, SOIC (W), Pb-Free; Code_JEDEC: MS-013-AD; ComponentLink1Description: Manufacturer URL; ComponentLink1URL: http://www.maxim-ic.com; ComponentLink2Description: Datasheet; ComponentLink2URL: http://datasheets.maxim-ic.com/en/ds/DS17285-DS17887.pdf; ComponentLink3Description: Package Specification; ComponentLink3URL: http://pdfserv.maxim-ic.com/package_dwgs/21-0042.PDF
footprint W24+3_N (SOIC, 24-Leads, Body 15.4x7.5mm, Pitch 1.27mm, IPC Medium Density)
footprint W24+3_L (SOIC, 24-Leads, Body 15.4x7.5mm, Pitch 1.27mm, IPC High Density)
footprint W24+3_M (SOIC, 24-Leads, Body 15.4x7.5mm, Pitch 1.27mm, IPC Low Density)
pins: 1 ~{PWR} (oc), 2 X1, 3 X2, 4 AD0 (io), 5 AD1 (io), 6 AD2 (io), 7 AD3 (io), 8 AD4 (io), 9 AD5 (io), 10 AD6 (io), 11 AD7 (io), 12 GND (power), 13 ~{CS} (in), 14 ALE (in), 15 ~{WR} (in), 16 GND (power), 17 ~{RD} (in), 18 ~{KS} (in), 19 ~{IRQ} (hiz), 20 VBAT (power), 21 ~{RCLR} (in), 22 VBAUX (power), 23 SQW (out), 24 VCC (power)

## DS17485S-3+T&R
designator U?
Real-Time Clock, 4KB Extended Battery-Backed NV RAM, 3.0V, 24-Pin SO, 0 to 70 degC, Pb-Free, Reel; DatasheetVersion: Rev 1, Apr-2010; PackageVersion: revD, 2010; PackageReference: W24+3; PackageDescription: 24-Pin Small-Outline IC, Wide (0.3in), 1.27 mm Pitch, SOIC (W), Pb-Free; Code_JEDEC: MS-013-AD; ComponentLink1Description: Manufacturer URL; ComponentLink1URL: http://www.maxim-ic.com; ComponentLink2Description: Datasheet; ComponentLink2URL: http://datasheets.maxim-ic.com/en/ds/DS17285-DS17887.pdf; ComponentLink3Description: Package Specification; ComponentLink3URL: http://pdfserv.maxim-ic.com/package_dwgs/21-0042.PDF
footprint W24+3_N (SOIC, 24-Leads, Body 15.4x7.5mm, Pitch 1.27mm, IPC Medium Density)
footprint W24+3_L (SOIC, 24-Leads, Body 15.4x7.5mm, Pitch 1.27mm, IPC High Density)
footprint W24+3_M (SOIC, 24-Leads, Body 15.4x7.5mm, Pitch 1.27mm, IPC Low Density)
pins: 1 ~{PWR} (oc), 2 X1, 3 X2, 4 AD0 (io), 5 AD1 (io), 6 AD2 (io), 7 AD3 (io), 8 AD4 (io), 9 AD5 (io), 10 AD6 (io), 11 AD7 (io), 12 GND (power), 13 ~{CS} (in), 14 ALE (in), 15 ~{WR} (in), 16 GND (power), 17 ~{RD} (in), 18 ~{KS} (in), 19 ~{IRQ} (hiz), 20 VBAT (power), 21 ~{RCLR} (in), 22 VBAUX (power), 23 SQW (out), 24 VCC (power)

## DS17485S-5+
designator U?
Real-Time Clock, 4KB Extended Battery-Backed NV RAM, 5.0V, 24-Pin SO, 0 to 70 degC, Pb-Free; DatasheetVersion: Rev 1, Apr-2010; PackageVersion: revD, 2010; PackageReference: W24+3; PackageDescription: 24-Pin Small-Outline IC, Wide (0.3in), 1.27 mm Pitch, SOIC (W), Pb-Free; Code_JEDEC: MS-013-AD; ComponentLink1Description: Manufacturer URL; ComponentLink1URL: http://www.maxim-ic.com; ComponentLink2Description: Datasheet; ComponentLink2URL: http://datasheets.maxim-ic.com/en/ds/DS17285-DS17887.pdf; ComponentLink3Description: Package Specification; ComponentLink3URL: http://pdfserv.maxim-ic.com/package_dwgs/21-0042.PDF
footprint W24+3_N (SOIC, 24-Leads, Body 15.4x7.5mm, Pitch 1.27mm, IPC Medium Density)
footprint W24+3_L (SOIC, 24-Leads, Body 15.4x7.5mm, Pitch 1.27mm, IPC High Density)
footprint W24+3_M (SOIC, 24-Leads, Body 15.4x7.5mm, Pitch 1.27mm, IPC Low Density)
pins: 1 ~{PWR} (oc), 2 X1, 3 X2, 4 AD0 (io), 5 AD1 (io), 6 AD2 (io), 7 AD3 (io), 8 AD4 (io), 9 AD5 (io), 10 AD6 (io), 11 AD7 (io), 12 GND (power), 13 ~{CS} (in), 14 ALE (in), 15 ~{WR} (in), 16 GND (power), 17 ~{RD} (in), 18 ~{KS} (in), 19 ~{IRQ} (hiz), 20 VBAT (power), 21 ~{RCLR} (in), 22 VBAUX (power), 23 SQW (out), 24 VCC (power)

## DS17485S-5+T&R
designator U?
Real-Time Clock, 4KB Extended Battery-Backed NV RAM, 5.0V, 24-Pin SO, 0 to 70 degC, Pb-Free, Reel; DatasheetVersion: Rev 1, Apr-2010; PackageVersion: revD, 2010; PackageReference: W24+3; PackageDescription: 24-Pin Small-Outline IC, Wide (0.3in), 1.27 mm Pitch, SOIC (W), Pb-Free; Code_JEDEC: MS-013-AD; ComponentLink1Description: Manufacturer URL; ComponentLink1URL: http://www.maxim-ic.com; ComponentLink2Description: Datasheet; ComponentLink2URL: http://datasheets.maxim-ic.com/en/ds/DS17285-DS17887.pdf; ComponentLink3Description: Package Specification; ComponentLink3URL: http://pdfserv.maxim-ic.com/package_dwgs/21-0042.PDF
footprint W24+3_N (SOIC, 24-Leads, Body 15.4x7.5mm, Pitch 1.27mm, IPC Medium Density)
footprint W24+3_L (SOIC, 24-Leads, Body 15.4x7.5mm, Pitch 1.27mm, IPC High Density)
footprint W24+3_M (SOIC, 24-Leads, Body 15.4x7.5mm, Pitch 1.27mm, IPC Low Density)
pins: 1 ~{PWR} (oc), 2 X1, 3 X2, 4 AD0 (io), 5 AD1 (io), 6 AD2 (io), 7 AD3 (io), 8 AD4 (io), 9 AD5 (io), 10 AD6 (io), 11 AD7 (io), 12 GND (power), 13 ~{CS} (in), 14 ALE (in), 15 ~{WR} (in), 16 GND (power), 17 ~{RD} (in), 18 ~{KS} (in), 19 ~{IRQ} (hiz), 20 VBAT (power), 21 ~{RCLR} (in), 22 VBAUX (power), 23 SQW (out), 24 VCC (power)

## DS17485SN-5+
designator U?
Real-Time Clock, 4KB Extended Battery-Backed NV RAM, 5.0V, 24-Pin SO, -40 to 85 degC, Pb-Free; DatasheetVersion: Rev 1, Apr-2010; PackageVersion: revD, 2010; PackageReference: W24+3; PackageDescription: 24-Pin Small-Outline IC, Wide (0.3in), 1.27 mm Pitch, SOIC (W), Pb-Free; Code_JEDEC: MS-013-AD; ComponentLink1Description: Manufacturer URL; ComponentLink1URL: http://www.maxim-ic.com; ComponentLink2Description: Datasheet; ComponentLink2URL: http://datasheets.maxim-ic.com/en/ds/DS17285-DS17887.pdf; ComponentLink3Description: Package Specification; ComponentLink3URL: http://pdfserv.maxim-ic.com/package_dwgs/21-0042.PDF
footprint W24+3_N (SOIC, 24-Leads, Body 15.4x7.5mm, Pitch 1.27mm, IPC Medium Density)
footprint W24+3_L (SOIC, 24-Leads, Body 15.4x7.5mm, Pitch 1.27mm, IPC High Density)
footprint W24+3_M (SOIC, 24-Leads, Body 15.4x7.5mm, Pitch 1.27mm, IPC Low Density)
pins: 1 ~{PWR} (oc), 2 X1, 3 X2, 4 AD0 (io), 5 AD1 (io), 6 AD2 (io), 7 AD3 (io), 8 AD4 (io), 9 AD5 (io), 10 AD6 (io), 11 AD7 (io), 12 GND (power), 13 ~{CS} (in), 14 ALE (in), 15 ~{WR} (in), 16 GND (power), 17 ~{RD} (in), 18 ~{KS} (in), 19 ~{IRQ} (hiz), 20 VBAT (power), 21 ~{RCLR} (in), 22 VBAUX (power), 23 SQW (out), 24 VCC (power)

## DS17487-3+
designator U?
Real-Time Clock, 4KB Extended Battery-Backed NV RAM, 3.0V, 24-Pin EDIP, 0 to 70 degC, Pb-Free; DatasheetVersion: Rev 1, Apr-2010; PackageVersion: revA, Feb-2009; PackageReference: MDP24+2; PackageDescription: 24-Pin Encapsulated Dual-In-Line Module, 2.54 mm Pitch, EDIP, 740-mil, Pb-Free; ComponentLink1Description: Manufacturer URL; ComponentLink1URL: http://www.maxim-ic.com; ComponentLink2Description: Datasheet; ComponentLink2URL: http://datasheets.maxim-ic.com/en/ds/DS17285-DS17887.pdf; ComponentLink3Description: Package Specification; ComponentLink3URL: http://pdfserv.maxim-ic.com/package_dwgs/21-0241.PDF
footprint MDP24+2 (DIP; 24 Rectangular Pins, Body 33.8x18.5mm, Row Space 15.24mm, Pitch 2.54mm)
part A pins: 1 ~{PWR} (oc), 4 AD0 (io), 5 AD1 (io), 6 AD2 (io), 7 AD3 (io), 8 AD4 (io), 9 AD5 (io), 10 AD6 (io), 11 AD7 (io), 12 GND (power), 13 ~{CS} (in), 14 ALE (in), 15 ~{WR} (in), 17 ~{RD} (in), 18 ~{KS} (in), 19 ~{IRQ} (oc), 21 ~{RCLR} (in), 22 VBAUX (power), 23 SQW (out), 24 VCC (power)
part B pins: 2 NC, 3 NC, 16 NC, 20 NC

## DS17487-3IND+
designator U?
Real-Time Clock, 4KB Extended Battery-Backed NV RAM, 3.0V, 24-Pin EDIP, -40 to 85 degC, Pb-Free; DatasheetVersion: Rev 1, Apr-2010; PackageVersion: revA, Feb-2009; PackageReference: MDP24+2; PackageDescription: 24-Pin Encapsulated Dual-In-Line Module, 2.54 mm Pitch, EDIP, 740-mil, Pb-Free; ComponentLink1Description: Manufacturer URL; ComponentLink1URL: http://www.maxim-ic.com; ComponentLink2Description: Datasheet; ComponentLink2URL: http://datasheets.maxim-ic.com/en/ds/DS17285-DS17887.pdf; ComponentLink3Description: Package Specification; ComponentLink3URL: http://pdfserv.maxim-ic.com/package_dwgs/21-0241.PDF
footprint MDP24+2 (DIP; 24 Rectangular Pins, Body 33.8x18.5mm, Row Space 15.24mm, Pitch 2.54mm)
part A pins: 1 ~{PWR} (oc), 4 AD0 (io), 5 AD1 (io), 6 AD2 (io), 7 AD3 (io), 8 AD4 (io), 9 AD5 (io), 10 AD6 (io), 11 AD7 (io), 12 GND (power), 13 ~{CS} (in), 14 ALE (in), 15 ~{WR} (in), 17 ~{RD} (in), 18 ~{KS} (in), 19 ~{IRQ} (oc), 21 ~{RCLR} (in), 22 VBAUX (power), 23 SQW (out), 24 VCC (power)
part B pins: 2 NC, 3 NC, 16 NC, 20 NC

## DS17487-5+
designator U?
Real-Time Clock, 4KB Extended Battery-Backed NV RAM, 5.0V, 24-Pin EDIP, 0 to 70 degC, Pb-Free; DatasheetVersion: Rev 1, Apr-2010; PackageVersion: revA, Feb-2009; PackageReference: MDP24+2; PackageDescription: 24-Pin Encapsulated Dual-In-Line Module, 2.54 mm Pitch, EDIP, 740-mil, Pb-Free; ComponentLink1Description: Manufacturer URL; ComponentLink1URL: http://www.maxim-ic.com; ComponentLink2Description: Datasheet; ComponentLink2URL: http://datasheets.maxim-ic.com/en/ds/DS17285-DS17887.pdf; ComponentLink3Description: Package Specification; ComponentLink3URL: http://pdfserv.maxim-ic.com/package_dwgs/21-0241.PDF
footprint MDP24+2 (DIP; 24 Rectangular Pins, Body 33.8x18.5mm, Row Space 15.24mm, Pitch 2.54mm)
part A pins: 1 ~{PWR} (oc), 4 AD0 (io), 5 AD1 (io), 6 AD2 (io), 7 AD3 (io), 8 AD4 (io), 9 AD5 (io), 10 AD6 (io), 11 AD7 (io), 12 GND (power), 13 ~{CS} (in), 14 ALE (in), 15 ~{WR} (in), 17 ~{RD} (in), 18 ~{KS} (in), 19 ~{IRQ} (oc), 21 ~{RCLR} (in), 22 VBAUX (power), 23 SQW (out), 24 VCC (power)
part B pins: 2 NC, 3 NC, 16 NC, 20 NC

## DS17487-5IND+
designator U?
Real-Time Clock, 4KB Extended Battery-Backed NV RAM, 5.0V, 24-Pin EDIP, -40 to 85 degC, Pb-Free; DatasheetVersion: Rev 1, Apr-2010; PackageVersion: revA, Feb-2009; PackageReference: MDP24+2; PackageDescription: 24-Pin Encapsulated Dual-In-Line Module, 2.54 mm Pitch, EDIP, 740-mil, Pb-Free; ComponentLink1Description: Manufacturer URL; ComponentLink1URL: http://www.maxim-ic.com; ComponentLink2Description: Datasheet; ComponentLink2URL: http://datasheets.maxim-ic.com/en/ds/DS17285-DS17887.pdf; ComponentLink3Description: Package Specification; ComponentLink3URL: http://pdfserv.maxim-ic.com/package_dwgs/21-0241.PDF
footprint MDP24+2 (DIP; 24 Rectangular Pins, Body 33.8x18.5mm, Row Space 15.24mm, Pitch 2.54mm)
part A pins: 1 ~{PWR} (oc), 4 AD0 (io), 5 AD1 (io), 6 AD2 (io), 7 AD3 (io), 8 AD4 (io), 9 AD5 (io), 10 AD6 (io), 11 AD7 (io), 12 GND (power), 13 ~{CS} (in), 14 ALE (in), 15 ~{WR} (in), 17 ~{RD} (in), 18 ~{KS} (in), 19 ~{IRQ} (oc), 21 ~{RCLR} (in), 22 VBAUX (power), 23 SQW (out), 24 VCC (power)
part B pins: 2 NC, 3 NC, 16 NC, 20 NC

## DS17885-3+
designator U?
Real-Time Clock, 8KB Extended Battery-Backed NV RAM, 3.0V, 24-Pin PDIP, 0 to 70 degC, Pb-Free; DatasheetVersion: Rev 1, Apr-2010; PackageVersion: revD, 2011; PackageReference: P24+6; PackageDescription: 24-Pin Plastic Dual-In-Line, 0.6in Wide, PDIP(W), Pb-Free; Code_JEDEC: MS-011-AA; ComponentLink1Description: Manufacturer URL; ComponentLink1URL: http://www.maxim-ic.com; ComponentLink2Description: Datasheet; ComponentLink2URL: http://datasheets.maxim-ic.com/en/ds/DS17285-DS17887.pdf; ComponentLink3Description: Package Specification; ComponentLink3URL: http://pdfserv.maxim-ic.com/package_dwgs/21-0044.PDF
footprint P24+6 (DIP, 24-Leads, Row Spacing 15.24mm, Pitch 2.54mm, Body 31.8x14mm)
pins: 1 ~{PWR} (oc), 2 X1, 3 X2, 4 AD0 (io), 5 AD1 (io), 6 AD2 (io), 7 AD3 (io), 8 AD4 (io), 9 AD5 (io), 10 AD6 (io), 11 AD7 (io), 12 GND (power), 13 ~{CS} (in), 14 ALE (in), 15 ~{WR} (in), 16 GND (power), 17 ~{RD} (in), 18 ~{KS} (in), 19 ~{IRQ} (hiz), 20 VBAT (power), 21 ~{RCLR} (in), 22 VBAUX (power), 23 SQW (out), 24 VCC (power)

## DS17885-5+
designator U?
Real-Time Clock, 8KB Extended Battery-Backed NV RAM, 5.0V, 24-Pin PDIP, 0 to 70 degC, Pb-Free; DatasheetVersion: Rev 1, Apr-2010; PackageVersion: revD, 2011; PackageReference: P24+6; PackageDescription: 24-Pin Plastic Dual-In-Line, 0.6in Wide, PDIP(W), Pb-Free; Code_JEDEC: MS-011-AA; ComponentLink1Description: Manufacturer URL; ComponentLink1URL: http://www.maxim-ic.com; ComponentLink2Description: Datasheet; ComponentLink2URL: http://datasheets.maxim-ic.com/en/ds/DS17285-DS17887.pdf; ComponentLink3Description: Package Specification; ComponentLink3URL: http://pdfserv.maxim-ic.com/package_dwgs/21-0044.PDF
footprint P24+6 (DIP, 24-Leads, Row Spacing 15.24mm, Pitch 2.54mm, Body 31.8x14mm)
pins: 1 ~{PWR} (oc), 2 X1, 3 X2, 4 AD0 (io), 5 AD1 (io), 6 AD2 (io), 7 AD3 (io), 8 AD4 (io), 9 AD5 (io), 10 AD6 (io), 11 AD7 (io), 12 GND (power), 13 ~{CS} (in), 14 ALE (in), 15 ~{WR} (in), 16 GND (power), 17 ~{RD} (in), 18 ~{KS} (in), 19 ~{IRQ} (hiz), 20 VBAT (power), 21 ~{RCLR} (in), 22 VBAUX (power), 23 SQW (out), 24 VCC (power)

## DS17885E-3+
designator U?
Real-Time Clock, 8KB Extended Battery-Backed NV RAM, 3.0V, 28-Pin TSOP, 0 to 70 degC, Pb-Free; DatasheetVersion: Rev 1, Apr-2010; PackageVersion: revB, Mar-2010; PackageReference: Z28+3; PackageDescription: 28-Pin Thin Small-Outline Package, 8.0 x 13.4 mm Body, 0.55 mm Pitch, TSOP(1), Pb-Free; Code_JEDEC: MO-183; ComponentLink1Description: Manufacturer URL; ComponentLink1URL: http://www.maxim-ic.com; ComponentLink2Description: Datasheet; ComponentLink2URL: http://datasheets.maxim-ic.com/en/ds/DS17285-DS17887.pdf; ComponentLink3Description: Package Specification; ComponentLink3URL: http://pdfserv.maxim-ic.com/package_dwgs/21-0273.PDF
footprint Z28+3_N (TSSOP, 28-Leads, Body 8x11.8mm, Pitch 0.55mm, IPC Medium Density)
footprint Z28+3_L (TSSOP, 28-Leads, Body 8x11.8mm, Pitch 0.55mm, IPC High Density)
footprint Z28+3_M (TSSOP, 28-Leads, Body 8x11.8mm, Pitch 0.55mm, IPC Low Density)
pins: 1 ~{IRQ} (oc), 2 VBAT (power), 3 ~{RCLR} (in), 4 VBAUX (power), 5 SQW (out), 6 VCC (power), 7 VCC (power), 8 ~{PWR} (oc), 9 X1, 10 X2, 11 NC, 12 AD0 (io), 13 AD1 (io), 14 AD2 (io), 15 AD3 (io), 16 AD4 (io), 17 AD5 (io), 18 NC, 19 AD6 (io), 20 AD7 (io), 21 GND (power), 22 GND (power), 23 ~{CS} (in), 24 ALE (in), 25 ~{WR} (in), 26 GND (power), 27 ~{RD} (in), 28 ~{KS} (in)

## DS17885E-5+
designator U?
Real-Time Clock, 8KB Extended Battery-Backed NV RAM, 5.0V, 28-Pin TSOP, 0 to 70 degC, Pb-Free; DatasheetVersion: Rev 1, Apr-2010; PackageVersion: revB, Mar-2010; PackageReference: Z28+3; PackageDescription: 28-Pin Thin Small-Outline Package, 8.0 x 13.4 mm Body, 0.55 mm Pitch, TSOP(1), Pb-Free; Code_JEDEC: MO-183; ComponentLink1Description: Manufacturer URL; ComponentLink1URL: http://www.maxim-ic.com; ComponentLink2Description: Datasheet; ComponentLink2URL: http://datasheets.maxim-ic.com/en/ds/DS17285-DS17887.pdf; ComponentLink3Description: Package Specification; ComponentLink3URL: http://pdfserv.maxim-ic.com/package_dwgs/21-0273.PDF
footprint Z28+3_N (TSSOP, 28-Leads, Body 8x11.8mm, Pitch 0.55mm, IPC Medium Density)
footprint Z28+3_L (TSSOP, 28-Leads, Body 8x11.8mm, Pitch 0.55mm, IPC High Density)
footprint Z28+3_M (TSSOP, 28-Leads, Body 8x11.8mm, Pitch 0.55mm, IPC Low Density)
pins: 1 ~{IRQ} (oc), 2 VBAT (power), 3 ~{RCLR} (in), 4 VBAUX (power), 5 SQW (out), 6 VCC (power), 7 VCC (power), 8 ~{PWR} (oc), 9 X1, 10 X2, 11 NC, 12 AD0 (io), 13 AD1 (io), 14 AD2 (io), 15 AD3 (io), 16 AD4 (io), 17 AD5 (io), 18 NC, 19 AD6 (io), 20 AD7 (io), 21 GND (power), 22 GND (power), 23 ~{CS} (in), 24 ALE (in), 25 ~{WR} (in), 26 GND (power), 27 ~{RD} (in), 28 ~{KS} (in)

## DS17885EN-3+
designator U?
Real-Time Clock, 8KB Extended Battery-Backed NV RAM, 3.0V, 28-Pin TSOP, -40 to 85 degC, Pb-Free; DatasheetVersion: Rev 1, Apr-2010; PackageVersion: revB, Mar-2010; PackageReference: Z28+3; PackageDescription: 28-Pin Thin Small-Outline Package, 8.0 x 13.4 mm Body, 0.55 mm Pitch, TSOP(1), Pb-Free; Code_JEDEC: MO-183; ComponentLink1Description: Manufacturer URL; ComponentLink1URL: http://www.maxim-ic.com; ComponentLink2Description: Datasheet; ComponentLink2URL: http://datasheets.maxim-ic.com/en/ds/DS17285-DS17887.pdf; ComponentLink3Description: Package Specification; ComponentLink3URL: http://pdfserv.maxim-ic.com/package_dwgs/21-0273.PDF
footprint Z28+3_N (TSSOP, 28-Leads, Body 8x11.8mm, Pitch 0.55mm, IPC Medium Density)
footprint Z28+3_L (TSSOP, 28-Leads, Body 8x11.8mm, Pitch 0.55mm, IPC High Density)
footprint Z28+3_M (TSSOP, 28-Leads, Body 8x11.8mm, Pitch 0.55mm, IPC Low Density)
pins: 1 ~{IRQ} (oc), 2 VBAT (power), 3 ~{RCLR} (in), 4 VBAUX (power), 5 SQW (out), 6 VCC (power), 7 VCC (power), 8 ~{PWR} (oc), 9 X1, 10 X2, 11 NC, 12 AD0 (io), 13 AD1 (io), 14 AD2 (io), 15 AD3 (io), 16 AD4 (io), 17 AD5 (io), 18 NC, 19 AD6 (io), 20 AD7 (io), 21 GND (power), 22 GND (power), 23 ~{CS} (in), 24 ALE (in), 25 ~{WR} (in), 26 GND (power), 27 ~{RD} (in), 28 ~{KS} (in)

## DS17885S-3+
designator U?
Real-Time Clock, 8KB Extended Battery-Backed NV RAM, 3.0V, 24-Pin SO, 0 to 70 degC, Pb-Free; DatasheetVersion: Rev 1, Apr-2010; PackageVersion: revD, 2010; PackageReference: W24+10; PackageDescription: 24-Pin Small-Outline IC, Wide (0.3in), 1.27 mm Pitch, SOIC (W), Pb-Free; Code_JEDEC: MS-013-AD; ComponentLink1Description: Manufacturer URL; ComponentLink1URL: http://www.maxim-ic.com; ComponentLink2Description: Datasheet; ComponentLink2URL: http://datasheets.maxim-ic.com/en/ds/DS17285-DS17887.pdf; ComponentLink3Description: Package Specification; ComponentLink3URL: http://pdfserv.maxim-ic.com/package_dwgs/21-0042.PDF
footprint W24+10_N (SOIC, 24-Leads, Body 15.4x7.5mm, Pitch 1.27mm, IPC Medium Density)
footprint W24+10_L (SOIC, 24-Leads, Body 15.4x7.5mm, Pitch 1.27mm, IPC High Density)
footprint W24+10_M (SOIC, 24-Leads, Body 15.4x7.5mm, Pitch 1.27mm, IPC Low Density)
pins: 1 ~{PWR} (oc), 2 X1, 3 X2, 4 AD0 (io), 5 AD1 (io), 6 AD2 (io), 7 AD3 (io), 8 AD4 (io), 9 AD5 (io), 10 AD6 (io), 11 AD7 (io), 12 GND (power), 13 ~{CS} (in), 14 ALE (in), 15 ~{WR} (in), 16 GND (power), 17 ~{RD} (in), 18 ~{KS} (in), 19 ~{IRQ} (hiz), 20 VBAT (power), 21 ~{RCLR} (in), 22 VBAUX (power), 23 SQW (out), 24 VCC (power)

## DS17885S-5
designator U?
Real-Time Clock, 8KB Extended Battery-Backed NV RAM, 5.0V, 24-Pin SO, 0 to 70 degC; DatasheetVersion: Rev 1, Apr-2010; PackageVersion: revD, 2010; PackageReference: W24-10; PackageDescription: 24-Pin Small-Outline IC, Wide (0.3in), 1.27 mm Pitch, SOIC (W); Code_JEDEC: MS-013-AD; ComponentLink1Description: Manufacturer URL; ComponentLink1URL: http://www.maxim-ic.com; ComponentLink2Description: Datasheet; ComponentLink2URL: http://datasheets.maxim-ic.com/en/ds/DS17285-DS17887.pdf; ComponentLink3Description: Package Specification; ComponentLink3URL: http://pdfserv.maxim-ic.com/package_dwgs/21-0042.PDF
footprint W24-10_N (SOIC, 24-Leads, Body 15.4x7.5mm, Pitch 1.27mm, IPC Medium Density)
footprint W24-10_L (SOIC, 24-Leads, Body 15.4x7.5mm, Pitch 1.27mm, IPC High Density)
footprint W24-10_M (SOIC, 24-Leads, Body 15.4x7.5mm, Pitch 1.27mm, IPC Low Density)
pins: 1 ~{PWR} (oc), 2 X1, 3 X2, 4 AD0 (io), 5 AD1 (io), 6 AD2 (io), 7 AD3 (io), 8 AD4 (io), 9 AD5 (io), 10 AD6 (io), 11 AD7 (io), 12 GND (power), 13 ~{CS} (in), 14 ALE (in), 15 ~{WR} (in), 16 GND (power), 17 ~{RD} (in), 18 ~{KS} (in), 19 ~{IRQ} (hiz), 20 VBAT (power), 21 ~{RCLR} (in), 22 VBAUX (power), 23 SQW (out), 24 VCC (power)

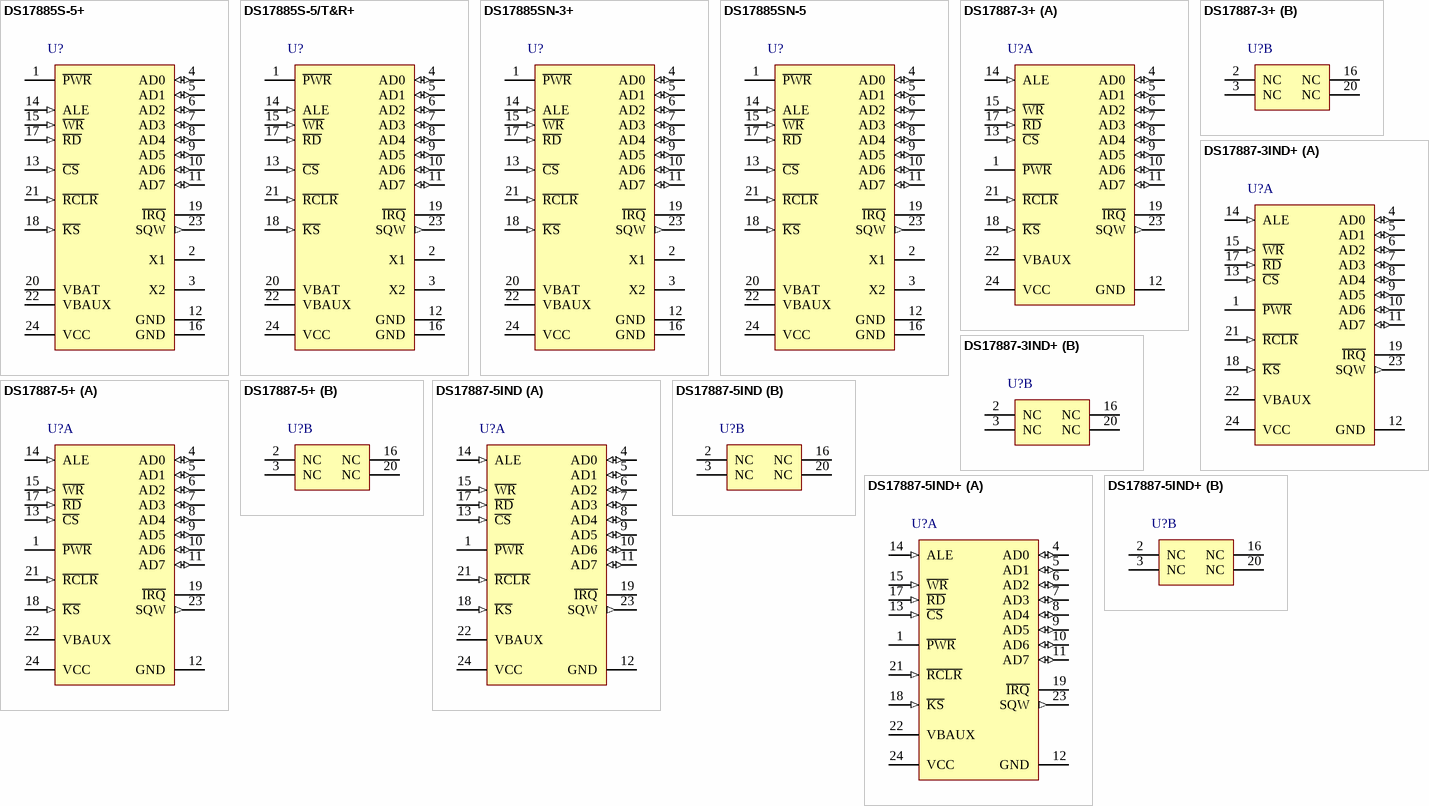
[diagram p21: symbols DS17885S-5+ to DS17887-5IND+]

## DS17885S-5+
designator U?
Real-Time Clock, 8KB Extended Battery-Backed NV RAM, 5.0V, 24-Pin SO, 0 to 70 degC, Pb-Free; DatasheetVersion: Rev 1, Apr-2010; PackageVersion: revD, 2010; PackageReference: W24+10; PackageDescription: 24-Pin Small-Outline IC, Wide (0.3in), 1.27 mm Pitch, SOIC (W), Pb-Free; Code_JEDEC: MS-013-AD; ComponentLink1Description: Manufacturer URL; ComponentLink1URL: http://www.maxim-ic.com; ComponentLink2Description: Datasheet; ComponentLink2URL: http://datasheets.maxim-ic.com/en/ds/DS17285-DS17887.pdf; ComponentLink3Description: Package Specification; ComponentLink3URL: http://pdfserv.maxim-ic.com/package_dwgs/21-0042.PDF
footprint W24+10_N (SOIC, 24-Leads, Body 15.4x7.5mm, Pitch 1.27mm, IPC Medium Density)
footprint W24+10_L (SOIC, 24-Leads, Body 15.4x7.5mm, Pitch 1.27mm, IPC High Density)
footprint W24+10_M (SOIC, 24-Leads, Body 15.4x7.5mm, Pitch 1.27mm, IPC Low Density)
pins: 1 ~{PWR} (oc), 2 X1, 3 X2, 4 AD0 (io), 5 AD1 (io), 6 AD2 (io), 7 AD3 (io), 8 AD4 (io), 9 AD5 (io), 10 AD6 (io), 11 AD7 (io), 12 GND (power), 13 ~{CS} (in), 14 ALE (in), 15 ~{WR} (in), 16 GND (power), 17 ~{RD} (in), 18 ~{KS} (in), 19 ~{IRQ} (hiz), 20 VBAT (power), 21 ~{RCLR} (in), 22 VBAUX (power), 23 SQW (out), 24 VCC (power)

## DS17885S-5/T&R+
designator U?
Real-Time Clock, 8KB Extended Battery-Backed NV RAM, 5.0V, 24-Pin SO, 0 to 70 degC, Pb-Free, Reel; DatasheetVersion: Rev 1, Apr-2010; PackageVersion: revD, 2010; PackageReference: W24+10; PackageDescription: 24-Pin Small-Outline IC, Wide (0.3in), 1.27 mm Pitch, SOIC (W), Pb-Free; Code_JEDEC: MS-013-AD; ComponentLink1Description: Manufacturer URL; ComponentLink1URL: http://www.maxim-ic.com; ComponentLink2Description: Datasheet; ComponentLink2URL: http://datasheets.maxim-ic.com/en/ds/DS17285-DS17887.pdf; ComponentLink3Description: Package Specification; ComponentLink3URL: http://pdfserv.maxim-ic.com/package_dwgs/21-0042.PDF
footprint W24+10_N (SOIC, 24-Leads, Body 15.4x7.5mm, Pitch 1.27mm, IPC Medium Density)
footprint W24+10_L (SOIC, 24-Leads, Body 15.4x7.5mm, Pitch 1.27mm, IPC High Density)
footprint W24+10_M (SOIC, 24-Leads, Body 15.4x7.5mm, Pitch 1.27mm, IPC Low Density)
pins: 1 ~{PWR} (oc), 2 X1, 3 X2, 4 AD0 (io), 5 AD1 (io), 6 AD2 (io), 7 AD3 (io), 8 AD4 (io), 9 AD5 (io), 10 AD6 (io), 11 AD7 (io), 12 GND (power), 13 ~{CS} (in), 14 ALE (in), 15 ~{WR} (in), 16 GND (power), 17 ~{RD} (in), 18 ~{KS} (in), 19 ~{IRQ} (hiz), 20 VBAT (power), 21 ~{RCLR} (in), 22 VBAUX (power), 23 SQW (out), 24 VCC (power)